# EAGLE library part HUCARD-EDGE (library PC-Engine)
This is a card-edge connector for PC Engine HuCards. The package origin identifies the corner of an un-mitered HuCard. There is a mask 'kepout' area at the edges to allow for artwork/soldermask at the edge
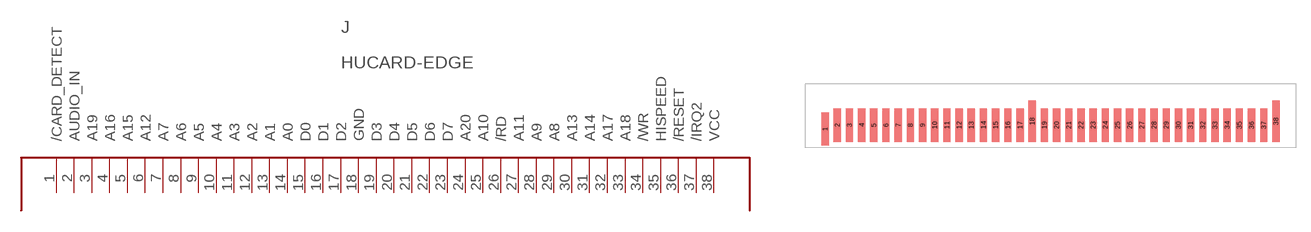
[diagram p2: symbol with the pads of HUCARD-EDGE; footprint HUCARD-EDGE]

Designator prefix J

## HUCARD-EDGE  [HUCARD-EDGE]
1  /CARD_DETECT  in
2  AUDIO_IN  in
3  A19  out
4  A16  out
5  A15  out
6  A12  out
7  A7  out
8  A6  out
9  A5  out
10  A4  out
11  A3  out
12  A2  out
13  A1  out
14  A0  out
15  D0
16  D1
17  D2
18  GND  sup
19  D3
20  D4
21  D5
22  D6
23  D7
24  A20  out
25  A10  out
26  /RD  out
27  A11  out
28  A9  out
29  A8  out
30  A13  out
31  A14  out
32  A17  out
33  A18  out
34  /WR  out
35  HISPEED  out
36  /RESET
37  /IRQ2
38  VCC  sup

## Footprint HUCARD-EDGE (pad centres in mm)
smd 0.762 x 3.48: 1 3.48,-4.674; 2 4.75,-4.267; 3 6.02,-4.267; 4 7.29,-4.267; 5 8.56,-4.267; 6 9.83,-4.267; 7 11.1,-4.267; 8 12.37,-4.267; 9 13.64,-4.267; 10 14.91,-4.267; 11 16.18,-4.267; 12 17.45,-4.267; 13 18.72,-4.267; 14 19.99,-4.267; 15 21.26,-4.267; 16 22.53,-4.267; 17 23.8,-4.267; 19 26.34,-4.267; 20 27.61,-4.267; 21 28.88,-4.267; 22 30.15,-4.267; 23 31.42,-4.267; 24 32.69,-4.267; 25 33.96,-4.267; 26 35.23,-4.267; 27 36.5,-4.267; 28 37.77,-4.267; 29 39.04,-4.267; 30 40.31,-4.267; 31 41.58,-4.267; 32 42.85,-4.267; 33 44.12,-4.267; 34 45.39,-4.267; 35 46.66,-4.267; 36 47.93,-4.267; 37 49.2,-4.267
smd 0.762 x 4.318: 18 25.07,-3.861; 38 50.47,-3.861